# Altium integrated library CPI-2207-95-SMT-TR.IntLib: 1 symbol
Pins are listed as number, name and electrical type; pins without a type are passive.

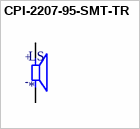
[diagram p0: symbol CPI-2207-95-SMT-TR]

## CPI-2207-95-SMT-TR
designator LS
22.1 mm, 12 Vdc, 95 dB, Surface Mount, Driving Circuit, Piezo Audio Indicator Buzzer; MF: CUI Devices; MP: CPI-2207-95-SMT-TR; CUI_purchase_URL: https://www.cuidevices.com/product/audio/buzzers/audio-indicators/cpi-2207-95-smt-tr?utm_source=snapeda.com&utm_medium=referral&utm_campaign=snapedaBOM; Digi-Key_Purchase_URL: https://www.digikey.com/product-detail/en/cui-devices/CPI-2207-95-SMT-TR/2223-CPI-2207-95-SMT-CT-ND/11591340?utm_source=snapeda&utm_medium=aggregator&utm_campaign=symbol; Digi-Key_Part_Number: 2223-CPI-2207-95-SMT-CT-ND; Package: CUI Devices; Value: *; SnapEDA_Link: https://www.snapeda.com/parts/CPI-2207-95-SMT-TR/CUI%20Devices/view-part/4502466/?ref=snap
footprint XDCR_CPI-2207-95-SMT-TR
pins: N, P
text: +; -